# Altium footprint library CN_IDC.PcbLib: 43 footprints (part 1 of 3)
Each footprint in its own frame and in the unit in brackets; x right, y up, seen from the top. Pads: shape width x height; smd on the part's side, far side on the other; paste and mask are expansions set on the pad; w line width, h text height; cw(c..) or ccw(c..) is an arc to the next point about the centre after c.
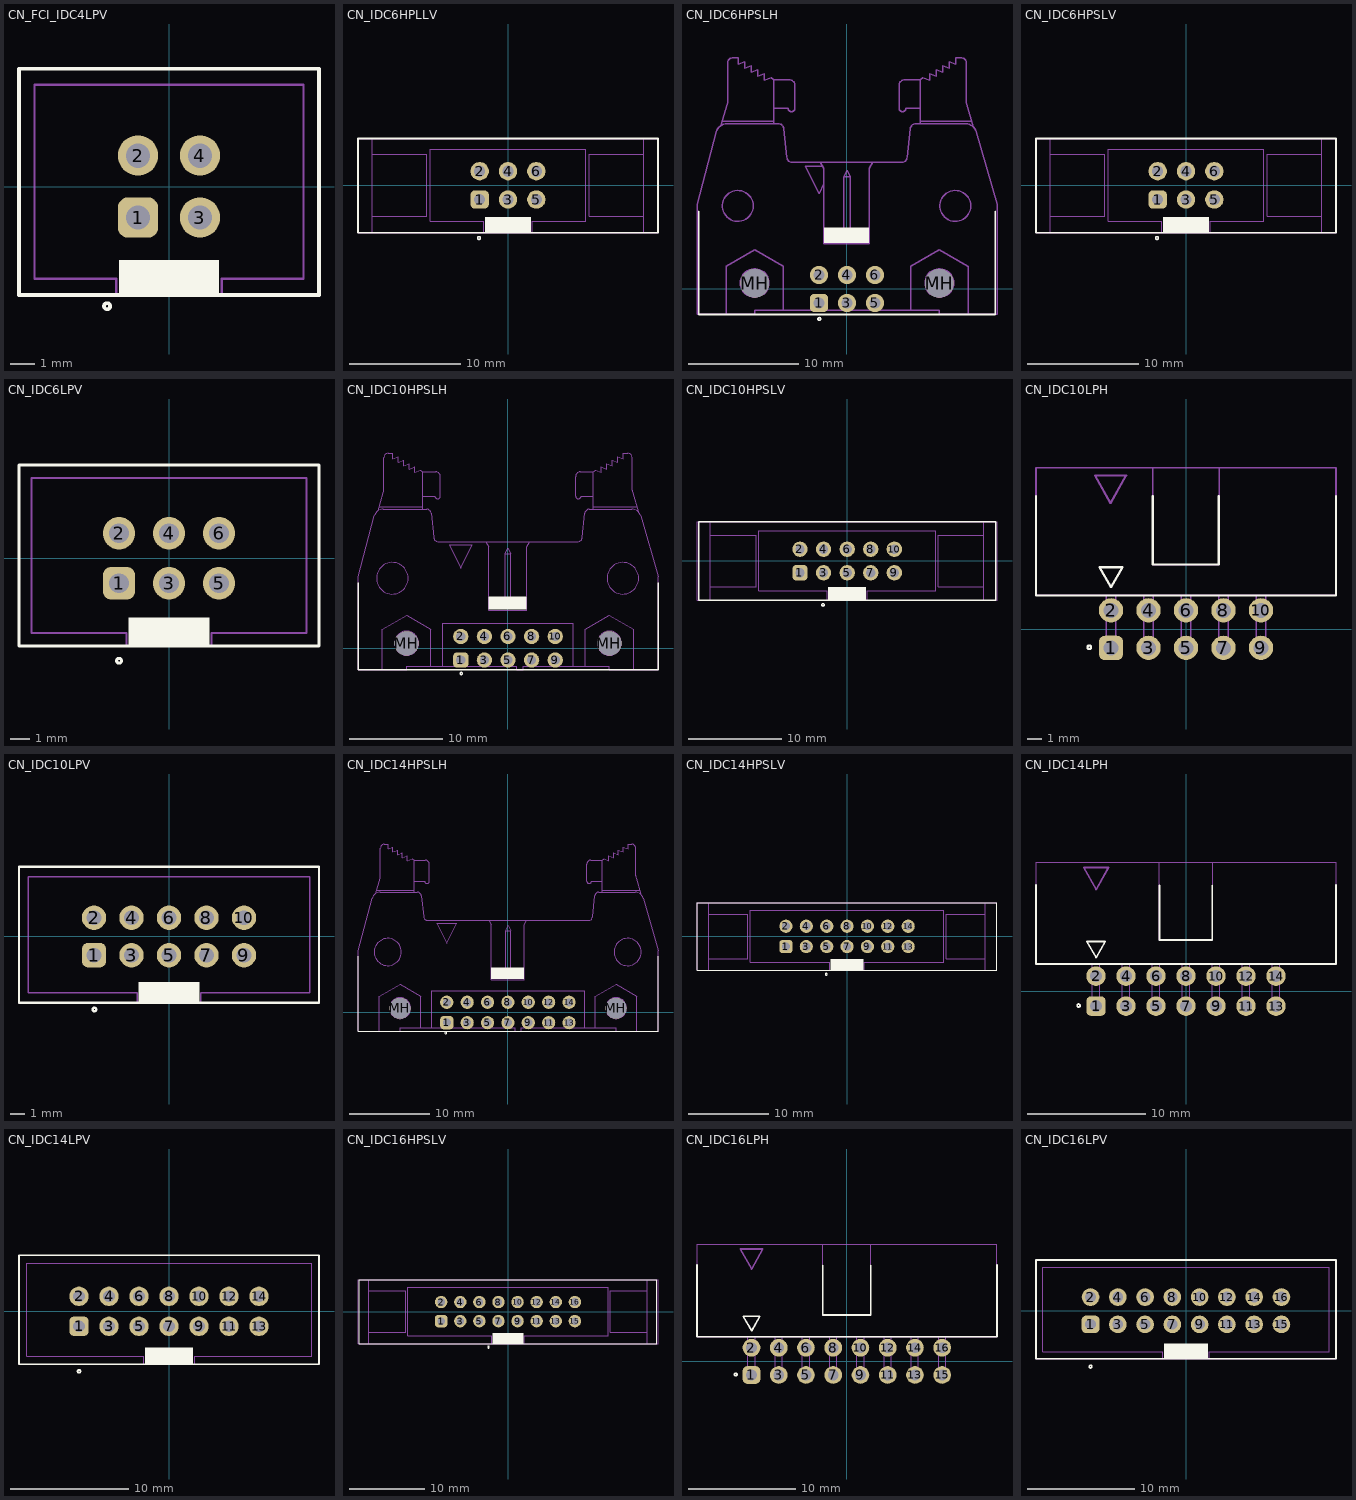
[diagram p0: the footprints below, top view; thin cyan lines are the x and y axes]

## CN_FCI_IDC4LPV [mm] "Connector IDC Low Profile Male Header, Thru-Hole; 4 pin; Vertical; R2.54 mm; Body 17.78 x 9.2 x 9.45 mm (LxWxH)"
height 9.45
pads (4):
  rrect50% 1.65x1.65 hole 1: 1(-1.27,-1.27)
  round 1.65 hole 1: 2(-1.27,1.27) 3(1.27,-1.27) 4(1.27,1.27)
Top Overlay:
  circle w0.15: c-2.538,-4.902 r0.125
  rectangle: -2.043,-4.445 2.057,-3.02
  lines w0.15: -6.147,-4.445 6.147,-4.445 6.147,4.826 -6.147,4.826 -6.147,-4.445
Mechanical 13:
  lines w0.102: -2.159,-4.445 -2.159,-3.782 -5.512,-3.782 -5.512,4.163 5.512,4.163 5.512,-3.782 2.159,-3.782 2.159,-4.445 ; -6.147,-4.442 -6.147,4.823 6.147,4.823 6.147,-4.442 -6.147,-4.442
  text "2" at -3.47,0.52 h1.5
  text "1" at -2.97,-2.02 h1.5
  text "4" at 2.521,0.52 h1.5
  text "3" at 2.521,-2.02 h1.5
3D body: height 9.34, standoff -3.03, extent -6.145,-4.444 6.145,4.826
3D body: height 0, standoff 0, extent -1.651,-1.651 -0.889,-0.889
3D body: height 0, standoff 0, extent -1.651,0.889 -0.889,1.651
3D body: height 0, standoff 0, extent 0.889,0.889 1.651,1.651
3D body: height 0, standoff 0, extent 0.889,-1.651 1.651,-0.889
3D body: height 0, standoff 0, extent -1.651,0.889 -0.889,1.651
3D body: height 0, standoff 0, extent -1.651,-1.651 -0.889,-0.889
3D body: height 0, standoff 0, extent 0.889,-1.651 1.651,-0.889
3D body: height 0, standoff 0, extent 0.889,0.889 1.651,1.651

## CN_IDC6HPLLV [mm] "Connector IDC High Profile Male Header, Thru-Hole; 6 pin; Vertical; R2.54 mm; Body 17.78 x 9.2 x 9.45 mm (LxWxH)  ni se modela!"
height 9.45
pads (6):
  rrect50% 1.65x1.65 hole 1: 1(-2.54,-1.27)
  round 1.65 hole 1: 2(-2.54,1.27) 3(0,-1.27) 4(0,1.27) 5(2.54,-1.27) 6(2.54,1.27)
Top Overlay:
  circle w0.15: c-2.6,-4.725 r0.125
  rectangle: -2.05,-4.25 2.05,-2.825
  lines w0.15: -13.45,-4.25 13.45,-4.25 13.45,4.2 -13.45,4.2 -13.45,-4.25
Mechanical 13:
  lines w0.1: -12.175,-4.25 -12.175,4.2 ; -12.175,-2.775 -7.275,-2.775 -7.275,2.775 -12.175,2.775 ; 12.175,-4.25 12.175,4.2 ; 12.175,-2.775 7.275,-2.775 7.275,2.775 12.175,2.775
  lines w0.102: -2.159,-4.25 -2.159,-3.2 -6.985,-3.2 -6.985,3.25 6.985,3.25 6.985,-3.2 2.159,-3.2 2.159,-4.25 ; -13.45,-4.25 -13.45,4.2 13.45,4.2 13.45,-4.25 -13.45,-4.25
  text "2" at -4.74,0.52 h1.5
  text "1" at -4.24,-2.02 h1.5
  text "6" at 3.74,0.52 h1.5
  text "5" at 3.74,-2.02 h1.5
3D body: height 23.59, standoff -2.91, extent -13.45,-4.25 13.45,4.25
3D body: height 14, standoff -2.9, extent -0.3,-1.57 0.3,-0.97
3D body: height 14, standoff -2.9, extent -0.3,0.97 0.3,1.57

## CN_IDC6HPSLH [mm] "Connector IDC High Profile Male Header, Thru-Hole; 6 pin; Horiz; R2.54 mm; Body 17.78 x 9.2 x 9.45 mm (LxWxH)"
height 9.45
pads (8):
  rrect50% 1.65x1.65 hole 1: 1(-2.54,-1.27)
  round 1.65 hole 1: 2(-2.54,1.27) 3(0,-1.27) 4(0,1.27) 5(2.54,-1.27) 6(2.54,1.27)
  round 2.59 hole 2.6 unplated paste+0 mask+0.2: MH(-8.38,0.53) MH(8.38,0.53)
Top Overlay:
  circle w0.15: c-2.513,-2.718 r0.125
  rectangle: -2.083,4.163 2.017,5.588
  lines w0.15: -13.45,7.036 -13.45,-2.311 13.45,-2.311 13.45,7.036
Mechanical 13:
  circle w0.127: c8.38,0.543 r1.3
  circle w0.127: c9.83,7.539 r1.4
  circle w0.127: c-9.91,7.539 r1.4
  circle w0.127: c-8.38,0.543 r1.3
  lines w0.127: -11.438,14.823 -10.871,16.75 ccw(c-11.83,17.033) -10.83,17.033 -10.83,20.489 cw(c-10.33,20.489) -10.33,20.989 -9.871,20.989 -9.871,20.401 -9.275,20.621 -9.275,20.033 -8.68,20.253 -8.68,19.666 -8.084,19.886 -8.084,19.298 -7.488,19.518 -7.488,18.931 -6.892,19.151 -6.63,18.989 ; -11.316,15.239 -6.63,15.239 ; -10.978,-2.311 -10.978,2.043 -8.38,3.543 -5.782,2.043 ; -6.63,14.989 -6.63,18.989 ; -6.63,16.389 -5.33,16.389 ccw(c-5.03,16.389) -4.73,16.389 -4.73,18.489 ccw(c-5.23,18.489) -5.23,18.989 -6.63,18.989 ; -5.78,-1.911 -5.78,2.041 ; -5.457,11.936 -5.726,14.53 ccw(c-6.225,14.489) -6.225,14.989 -10.887,14.989 ccw(c-10.887,13.989) -11.853,14.247 -13.61,7.689 -13.61,-2.311 -8.38,-2.311 -8.38,-1.911 8.38,-1.911 8.38,-2.311 13.61,-2.311 13.61,7.689 11.745,14.248 ccw(c10.779,13.989) 10.779,14.989 6.225,14.989 ccw(c6.225,14.489) 5.728,14.539 5.457,11.938 cw(c4.96,11.989) 4.96,11.489 -4.96,11.489 cw(c-4.96,11.989) -5.457,11.938 ; -2.408,11.489 -2.09,10.939 -2.09,4.089 2.01,4.089 2.01,10.939 2.327,11.489 ; -2.206,11.139 -3.79,11.139 -2.54,8.639 -2.09,9.538 ; -2.09,4.989 2.01,4.989 ; -0.318,4.989 -0.318,10.189 ; 0.317,4.989 0.317,10.189 ; 5.78,-1.911 5.78,2.041 ; 5.782,2.043 8.38,3.543 10.978,2.043 ; 6.63,14.989 6.63,18.989 ; 6.63,15.239 11.316,15.239 ; 6.63,16.389 5.33,16.389 cw(c5.03,16.389) 4.73,16.389 4.73,18.489 cw(c5.23,18.489) 5.23,18.989 6.63,18.989 ; 10.98,-2.311 10.98,2.041 ; 11.471,14.711 10.871,16.75 cw(c11.83,17.033) 10.83,17.033 10.83,20.489 ccw(c10.33,20.489) 10.33,20.989 9.871,20.989 9.871,20.401 9.275,20.621 9.275,20.033 8.68,20.253 8.68,19.666 8.084,19.886 8.084,19.298 7.488,19.518 7.488,18.931 6.892,19.151 6.63,18.989 ; -0.318,10.189 0,10.789 0.317,10.189 ; -0.318,10.189 0.317,10.189
  text "2" at -4.166,0.635 h1.25
  text "1" at -3.962,-1.626 h1.25
  text "6" at 3.429,0.635 h1.25
  text "5" at 3.404,-1.6 h1.25
3D body: height 5.85, standoff 5.25, extent -0.3,-1.57 0.3,11.379
3D body: height 3.31, standoff 2.71, extent -0.3,0.97 0.3,11.379
3D body: height 8.53, standoff -3.17, extent -13.45,-2.311 13.45,20.989
3D body: height 5.22, standoff -2.9, extent -0.3,-1.57 0.3,-0.97
3D body: height 2.68, standoff -2.9, extent -0.3,0.97 0.3,1.57

## CN_IDC6HPSLV [mm] "Connector IDC High Profile Male Header, Thru-Hole; 6 pin; Vertical; R2.54 mm; Body 17.78 x 9.2 x 9.45 mm (LxWxH)"
height 9.45
pads (6):
  rrect50% 1.65x1.65 hole 1: 1(-2.54,-1.27)
  round 1.65 hole 1: 2(-2.54,1.27) 3(0,-1.27) 4(0,1.27) 5(2.54,-1.27) 6(2.54,1.27)
Top Overlay:
  circle w0.15: c-2.6,-4.725 r0.125
  rectangle: -2.05,-4.25 2.05,-2.825
  lines w0.15: -13.45,-4.25 13.45,-4.25 13.45,4.2 -13.45,4.2 -13.45,-4.25
Mechanical 13:
  lines w0.1: -12.175,-4.25 -12.175,4.2 ; -12.175,-2.775 -7.275,-2.775 -7.275,2.775 -12.175,2.775 ; 12.175,-4.25 12.175,4.2 ; 12.175,-2.775 7.275,-2.775 7.275,2.775 12.175,2.775
  lines w0.102: -2.159,-4.25 -2.159,-3.2 -6.985,-3.2 -6.985,3.25 6.985,3.25 6.985,-3.2 2.159,-3.2 2.159,-4.25 ; -13.45,-4.25 -13.45,4.2 13.45,4.2 13.45,-4.25 -13.45,-4.25
  text "2" at -4.74,0.52 h1.5
  text "1" at -4.24,-2.02 h1.5
  text "6" at 3.74,0.52 h1.5
  text "5" at 3.74,-2.02 h1.5
3D body: height 23.59, standoff -2.91, extent -13.45,-4.25 13.45,4.25
3D body: height 14, standoff -2.9, extent -0.3,-1.57 0.3,-0.97
3D body: height 14, standoff -2.9, extent -0.3,0.97 0.3,1.57

## CN_IDC6LPV [mm] "Connector IDC Low Profile Male Header, Thru-Hole; 6 pin; Vertical; R2.54 mm; Body 17.78 x 9.2 x 9.45 mm (LxWxH)"
height 9.45
pads (6):
  rrect50% 1.65x1.65 hole 1: 1(-2.54,-1.27)
  round 1.65 hole 1: 2(-2.54,1.27) 3(0,-1.27) 4(0,1.27) 5(2.54,-1.27) 6(2.54,1.27)
Top Overlay:
  circle w0.15: c-2.538,-5.207 r0.125
  rectangle: -2.05,-4.448 2.05,-3.023
  lines w0.15: -7.62,-4.457 -7.62,4.747 7.62,4.747 7.62,-4.457 -7.62,-4.457
Mechanical 13:
  lines w0.102: -2.159,-4.448 -2.159,-3.794 -6.985,-3.794 -6.985,4.084 6.985,4.084 6.985,-3.794 2.159,-3.794 2.159,-4.448 ; -7.62,-4.455 7.62,-4.455 7.62,4.745 -7.62,4.745 -7.62,-4.455
  text "5" at 3.74,-2.02 h1.5
  text "6" at 3.74,0.52 h1.5
  text "1" at -4.24,-2.02 h1.5
  text "2" at -4.74,0.52 h1.5
3D body: height 9.4, standoff -3.25, extent -7.62,-4.45 7.62,4.75

## CN_IDC10HPSLH [mm] "Connector IDC High Profile Male Header, Thru-Hole; 10pin; Horiz; R2.54 mm; Body 17.78 x 9.2 x 9.45 mm (LxWxH)"
height 9.45
pads (12):
  rrect50% 1.65x1.65 hole 1: 1(-5.08,-1.27)
  round 1.65 hole 1: 2(-5.08,1.27) 3(-2.54,-1.27) 4(-2.54,1.27) 5(0,-1.27) 6(0,1.27) 7(2.54,-1.27) 8(2.54,1.27) 9(5.08,-1.27) 10(5.08,1.27)
  round 2.59 hole 2.6 unplated paste+0 mask+0.2: MH(-10.92,0.53) MH(10.92,0.53)
Top Overlay:
  circle w0.15: c-5.027,-2.718 r0.125
  rectangle: -2.083,4.163 2.017,5.588
  lines w0.15: -16.15,7.036 -16.15,-2.311 16.15,-2.311 16.15,7.036
Mechanical 13:
  circle w0.127: c10.92,0.543 r1.3
  circle w0.127: c12.37,7.539 r1.7
  circle w0.127: c-12.45,7.539 r1.7
  circle w0.127: c-10.92,0.543 r1.3
  lines w0.127: -13.978,14.823 -13.411,16.75 ccw(c-14.37,17.033) -13.37,17.033 -13.37,20.489 cw(c-12.87,20.489) -12.87,20.989 -12.411,20.989 -12.411,20.401 -11.815,20.621 -11.815,20.033 -11.22,20.253 -11.22,19.666 -10.624,19.886 -10.624,19.298 -10.028,19.518 -10.028,18.931 -9.432,19.151 -9.17,18.989 ; -13.856,15.239 -9.17,15.239 ; -13.518,-2.311 -13.518,2.043 -10.92,3.543 -8.322,2.043 ; -9.17,14.989 -9.17,18.989 ; -9.17,16.389 -7.87,16.389 ccw(c-7.57,16.389) -7.27,16.389 -7.27,18.489 ccw(c-7.77,18.489) -7.77,18.989 -9.17,18.989 ; -8.32,-1.911 -8.32,2.041 ; -7.997,11.936 -8.266,14.53 ccw(c-8.765,14.489) -8.765,14.989 -13.427,14.989 ccw(c-13.427,13.989) -14.393,14.247 -16.15,7.689 -16.15,-2.311 -10.92,-2.311 -10.92,-1.911 0.92,-1.911 0.92,-2.311 1.62,-2.311 1.62,-1.911 10.92,-1.911 10.92,-2.311 16.15,-2.311 16.15,7.689 14.285,14.248 ccw(c13.319,13.989) 13.319,14.989 8.765,14.989 ccw(c8.765,14.489) 8.268,14.539 7.997,11.938 cw(c7.5,11.989) 7.5,11.489 0,11.489 -7.5,11.489 cw(c-7.5,11.989) -7.997,11.938 ; -7,-1.911 -7,2.689 0,2.689 7,2.689 7,-1.911 ; -2.408,11.489 -2.09,10.939 -2.09,4.089 2.01,4.089 2.01,10.939 2.327,11.489 ; -2.09,4.989 2.01,4.989 ; -0.318,4.989 -0.318,10.189 ; 0.317,4.989 0.317,10.189 ; 8.32,-1.911 8.32,2.041 ; 8.322,2.043 10.92,3.543 13.518,2.043 ; 9.17,14.989 9.17,18.989 ; 9.17,15.239 13.856,15.239 ; 9.17,16.389 7.87,16.389 cw(c7.57,16.389) 7.27,16.389 7.27,18.489 cw(c7.77,18.489) 7.77,18.989 9.17,18.989 ; 13.52,-2.311 13.52,2.041 ; 14.011,14.711 13.411,16.75 cw(c14.37,17.033) 13.37,17.033 13.37,20.489 ccw(c12.87,20.489) 12.87,20.989 12.411,20.989 12.411,20.401 11.815,20.621 11.815,20.033 11.22,20.253 11.22,19.666 10.624,19.886 10.624,19.298 10.028,19.518 10.028,18.931 9.432,19.151 9.17,18.989 ; -0.318,10.189 0,10.789 0.317,10.189 ; -0.318,10.189 0.317,10.189 ; -6.33,11.139 -5.08,8.639 -3.83,11.139 -6.33,11.139
  text "2" at -4.166,0.635 h1.25
  text "1" at -3.962,-1.626 h1.25
  text "6" at 3.429,0.635 h1.25
  text "5" at 3.404,-1.6 h1.25
3D body: height 5.85, standoff 5.25, extent -0.3,-1.57 0.3,11.379
3D body: height 3.31, standoff 2.71, extent -0.3,0.97 0.3,11.379
3D body: height 8.53, standoff -3.17, extent -16.15,-2.311 16.15,20.989
3D body: height 5.22, standoff -2.9, extent -0.3,-1.57 0.3,-0.97
3D body: height 2.68, standoff -2.9, extent -0.3,0.97 0.3,1.57
3D body: height 2.68, standoff -2.9, extent -2.84,0.97 -2.24,1.57
3D body: height 5.22, standoff -2.9, extent -2.84,-1.57 -2.24,-0.97
3D body: height 3.31, standoff 2.71, extent -2.84,0.97 -2.24,11.379
3D body: height 5.85, standoff 5.25, extent -2.84,-1.57 -2.24,11.379
3D body: height 2.68, standoff -2.9, extent 2.24,0.97 2.84,1.57
3D body: height 5.22, standoff -2.9, extent 2.24,-1.57 2.84,-0.97
3D body: height 3.31, standoff 2.71, extent 2.24,0.97 2.84,11.379
3D body: height 5.85, standoff 5.25, extent 2.24,-1.57 2.84,11.379

## CN_IDC10HPSLV [mm] "Connector IDC High Profile Male Header, Thru-Hole; 10 pin; Vertical; R2.54 mm; Body 17.78 x 9.2 x 9.45 mm (LxWxH)"
height 9.45
pads (10):
  rrect50% 1.65x1.65 hole 1: 1(-5.08,-1.27)
  round 1.65 hole 1: 2(-5.08,1.27) 3(-2.54,-1.27) 4(-2.54,1.27) 5(0,-1.27) 6(0,1.27) 7(2.54,-1.27) 8(2.54,1.27) 9(5.08,-1.27) 10(5.08,1.27)
Top Overlay:
  circle w0.15: c-2.6,-4.725 r0.125
  rectangle: -2.05,-4.25 2.05,-2.825
  lines w0.15: -15.99,-4.25 -15.99,4.2 15.99,4.2 15.99,-4.25 -15.99,-4.25
Mechanical 13:
  lines w0.1: -14.715,-4.25 -14.715,4.2 ; -14.715,-2.775 -9.815,-2.775 -9.815,2.775 -14.715,2.775 ; 14.715,-4.25 14.715,4.2 ; 14.715,-2.775 9.815,-2.775 9.815,2.775 14.715,2.775
  lines w0.102: -2.159,-4.25 -2.159,-3.2 -9.525,-3.2 -9.525,3.25 9.525,3.25 9.525,-3.2 2.159,-3.2 2.159,-4.25 ; -16.168,-4.25 -16.168,4.2 16.132,4.2 16.132,-4.25 -16.168,-4.25
  text "9" at 6.28,-2.02 h1.5
  text "10" at 6.28,0.52 h1.5
  text "1" at -6.78,-2.02 h1.5
  text "2" at -7.28,0.52 h1.5
3D body: height 14, standoff -2.9, extent 2.24,-1.57 2.84,-0.97
3D body: height 14, standoff -2.9, extent 2.24,0.97 2.84,1.57
3D body: height 14, standoff -2.9, extent -2.84,-1.57 -2.24,-0.97
3D body: height 14, standoff -2.9, extent -2.84,0.97 -2.24,1.57
3D body: height 14, standoff -2.9, extent -0.3,0.97 0.3,1.57
3D body: height 14, standoff -2.9, extent -0.3,-1.57 0.3,-0.97
3D body: height 23.59, standoff -2.91, extent -16.168,-4.25 16.132,4.25

## CN_IDC10LPH [mm] "Connector IDC Low Profile Male Header, Thru-Hole; 10 pin; Horizontal; R2.54 mm; Body 20.32 x 9.45 x 9.2 mm (LxWxH)"
height 9.2
pads (10):
  rrect50% 1.65x1.65 hole 1: 1(-5.08,-1.27)
  round 1.65 hole 1: 2(-5.08,1.27) 3(-2.54,-1.27) 4(-2.54,1.27) 5(0,-1.27) 6(0,1.27) 7(2.54,-1.27) 8(2.54,1.27) 9(5.08,-1.27) 10(5.08,1.27)
Top Overlay:
  circle w0.15: c-6.55,-1.225 r0.125
  lines w0.15: -10.16,9 -10.16,2.286 10.16,2.286 10.16,9 ; -2.25,9 -2.25,4.375 2.225,4.375 2.225,9 ; -5.85,4.2 -5.075,2.85 -4.3,4.2 -5.85,4.2
Mechanical 13:
  lines w0.1: -5.41,2.286 -5.41,-1.6 -4.75,-1.6 -4.75,2.286 ; -2.87,2.286 -2.87,-1.6 -2.21,-1.6 -2.21,2.286 ; -2.25,4.375 2.225,4.375 ; -0.33,2.286 -0.33,-1.6 0.33,-1.6 0.33,2.286 ; 2.21,2.286 2.21,-1.6 2.87,-1.6 2.87,2.286 ; 4.75,2.286 4.75,-1.6 5.41,-1.6 5.41,2.286
  lines w0.102: -2.25,4.375 -2.25,10.922 ; 2.25,4.4 2.25,10.922 ; -10.16,2.311 10.16,2.311 10.16,10.922 -10.16,10.922 -10.16,2.311
  lines w0.15: -6.15,10.413 -4.05,10.413 -5.1,8.538 -6.15,10.413
  text "9" at 6.28,-2.02 h1.5
  text "10" at 6.28,0.52 h1.5
  text "1" at -6.78,-2.02 h1.5
  text "2" at -7.28,0.52 h1.5
3D body: height 9.2, standoff -3.2, extent -10.16,-1.598 10.16,10.922

## CN_IDC10LPV [mm] "Connector IDC Low Profile Male Header, Thru-Hole; 10 pin; Vertical; R2.54 mm; Body 20.32 x 9.2 x 9.45 mm (LxWxH)"
height 9.45
pads (10):
  rrect50% 1.65x1.65 hole 1: 1(-5.08,-1.27)
  round 1.65 hole 1: 2(-5.08,1.27) 3(-2.54,-1.27) 4(-2.54,1.27) 5(0,-1.27) 6(0,1.27) 7(2.54,-1.27) 8(2.54,1.27) 9(5.08,-1.27) 10(5.08,1.27)
Top Overlay:
  circle w0.15: c-5.055,-4.945 r0.125
  rectangle: -2.05,-4.498 2.05,-3.073
  lines w0.15: -10.16,-4.493 -10.16,4.722 10.16,4.722 10.16,-4.493 -10.16,-4.493
Mechanical 13:
  lines w0.102: -2.159,-4.491 -2.159,-3.83 -9.525,-3.83 -9.525,4.059 9.525,4.059 9.525,-3.83 2.159,-3.83 2.159,-4.491 ; -10.16,-4.491 10.16,-4.491 10.16,4.719 -10.16,4.719 -10.16,-4.491
  text "9" at 6.28,-2.02 h1.5
  text "10" at 6.28,0.52 h1.5
  text "1" at -6.78,-2.02 h1.5
  text "2" at -7.28,0.52 h1.5
3D body: height 9.4, standoff -3.25, extent -10.16,-4.45 10.16,4.75

## CN_IDC14HPSLH [mm] "Connector IDC High Profile Male Header, Thru-Hole; 14 pin; Horiz; R2.54 mm; Body 17.78 x 9.2 x 9.45 mm (LxWxH)"
height 9.45
pads (16):
  rrect50% 1.65x1.65 hole 1: 1(-7.62,-1.27)
  round 1.65 hole 1: 2(-7.62,1.27) 3(-5.08,-1.27) 4(-5.08,1.27) 5(-2.54,-1.27) 6(-2.54,1.27) 7(0,-1.27) 8(0,1.27) 9(2.54,-1.27) 10(2.54,1.27) 11(5.08,-1.27) 12(5.08,1.27) 13(7.62,-1.27) 14(7.62,1.27)
  round 2.59 hole 2.6 unplated paste+0 mask+0.2: MH(-13.46,0.53) MH(13.46,0.53)
Top Overlay:
  circle w0.15: c-7.745,-2.54 r0.125
  rectangle: -2.083,4.163 2.017,5.588
  lines w0.15: -18.69,7.036 -18.69,-2.311 18.71,-2.311 18.71,7.036
Mechanical 13:
  circle w0.127: c-13.44,0.543 r1.3
  circle w0.127: c-14.97,7.539 r1.7
  circle w0.127: c14.93,7.539 r1.7
  circle w0.127: c13.48,0.543 r1.3
  lines w0.127: -16.498,14.823 -15.931,16.75 ccw(c-16.89,17.033) -15.89,17.033 -15.89,20.489 cw(c-15.39,20.489) -15.39,20.989 -14.931,20.989 -14.931,20.401 -14.335,20.621 -14.335,20.033 -13.74,20.253 -13.74,19.666 -13.144,19.886 -13.144,19.298 -12.548,19.518 -12.548,18.931 -11.952,19.151 -11.69,18.989 ; -16.376,15.239 -11.69,15.239 ; -16.038,-2.311 -16.038,2.043 -13.44,3.543 -10.842,2.043 ; -11.69,14.989 -11.69,18.989 ; -11.69,16.389 -10.39,16.389 ccw(c-10.09,16.389) -9.79,16.389 -9.79,18.489 ccw(c-10.29,18.489) -10.29,18.989 -11.69,18.989 ; -10.84,-1.911 -10.84,2.041 ; -10.517,11.936 -10.786,14.53 ccw(c-11.285,14.489) -11.285,14.989 -15.947,14.989 ccw(c-15.947,13.989) -16.913,14.247 -18.67,7.689 -18.67,-2.311 -13.44,-2.311 -13.44,-1.911 0.94,-1.911 0.94,-2.311 1.64,-2.311 1.64,-1.911 13.48,-1.911 13.48,-2.311 18.71,-2.311 18.71,7.689 16.845,14.248 ccw(c15.879,13.989) 15.879,14.989 ; -10.517,11.938 ccw(c-10.02,11.989) -10.02,11.489 0.02,11.489 10.06,11.489 ccw(c10.06,11.989) 10.557,11.938 10.828,14.539 cw(c11.325,14.489) 11.325,14.989 15.879,14.989 ; -9.52,-1.911 -9.52,2.689 0.02,2.689 9.56,2.689 9.56,-1.911 ; -2.388,11.489 -2.07,10.939 -2.07,4.089 2.03,4.089 2.03,10.939 2.347,11.489 ; -2.07,4.989 2.03,4.989 ; -0.298,4.989 -0.298,10.189 ; 0.337,4.989 0.337,10.189 ; 10.88,-1.911 10.88,2.041 ; 10.882,2.043 13.48,3.543 16.078,2.043 ; 11.73,14.989 11.73,18.989 ; 11.73,15.239 16.416,15.239 ; 11.73,16.389 10.43,16.389 cw(c10.13,16.389) 9.83,16.389 9.83,18.489 cw(c10.33,18.489) 10.33,18.989 11.73,18.989 ; 16.08,-2.311 16.08,2.041 ; 16.571,14.711 15.971,16.75 cw(c16.93,17.033) 15.93,17.033 15.93,20.489 ccw(c15.43,20.489) 15.43,20.989 14.971,20.989 14.971,20.401 14.375,20.621 14.375,20.033 13.78,20.253 13.78,19.666 13.184,19.886 13.184,19.298 12.588,19.518 12.588,18.931 11.992,19.151 11.73,18.989 ; -0.298,10.189 0.337,10.189 ; -0.298,10.189 0.02,10.789 0.337,10.189 ; -8.85,11.139 -6.35,11.139 -7.6,8.639 -8.85,11.139
  text "13" at 8.484,-1.6 h1.25
  text "14" at 8.509,0.635 h1.25
  text "1" at -9.042,-1.626 h1.25
  text "2" at -9.246,0.635 h1.25
3D body: height 2.68, standoff -2.9, extent -5.38,0.97 -4.78,1.57
3D body: height 5.22, standoff -2.9, extent -5.38,-1.57 -4.78,-0.97
3D body: height 3.31, standoff 2.71, extent -5.38,0.97 -4.78,11.379
3D body: height 5.85, standoff 5.25, extent -5.38,-1.57 -4.78,11.379
3D body: height 5.85, standoff 5.25, extent 4.78,-1.57 5.38,11.379
3D body: height 3.31, standoff 2.71, extent 4.78,0.97 5.38,11.379
3D body: height 5.22, standoff -2.9, extent 4.78,-1.57 5.38,-0.97
3D body: height 2.68, standoff -2.9, extent 4.78,0.97 5.38,1.57
3D body: height 5.85, standoff 5.25, extent 2.24,-1.57 2.84,11.379
3D body: height 3.31, standoff 2.71, extent 2.24,0.97 2.84,11.379
3D body: height 5.22, standoff -2.9, extent 2.24,-1.57 2.84,-0.97
3D body: height 2.68, standoff -2.9, extent 2.24,0.97 2.84,1.57
3D body: height 5.85, standoff 5.25, extent -2.84,-1.57 -2.24,11.379
3D body: height 3.31, standoff 2.71, extent -2.84,0.97 -2.24,11.379
3D body: height 5.22, standoff -2.9, extent -2.84,-1.57 -2.24,-0.97
3D body: height 2.68, standoff -2.9, extent -2.84,0.97 -2.24,1.57
3D body: height 2.68, standoff -2.9, extent -0.3,0.97 0.3,1.57
3D body: height 5.22, standoff -2.9, extent -0.3,-1.57 0.3,-0.97
3D body: height 8.53, standoff -3.17, extent -18.69,-2.311 18.71,20.989
3D body: height 3.31, standoff 2.71, extent -0.3,0.97 0.3,11.379
3D body: height 5.85, standoff 5.25, extent -0.3,-1.57 0.3,11.379

## CN_IDC14HPSLV [mm] "Connector IDC High Profile Male Header, Thru-Hole; 14pin; Vertical; R2.54 mm; Body 17.78 x 9.2 x 9.45 mm (LxWxH)"
height 9.45
pads (14):
  rrect50% 1.65x1.65 hole 1: 1(-7.62,-1.27)
  round 1.65 hole 1: 2(-7.62,1.27) 3(-5.08,-1.27) 4(-5.08,1.27) 5(-2.54,-1.27) 6(-2.54,1.27) 7(0,-1.27) 8(0,1.27) 9(2.54,-1.27) 10(2.54,1.27) 11(5.08,-1.27) 12(5.08,1.27) 13(7.62,-1.27) 14(7.62,1.27)
Top Overlay:
  circle w0.15: c-2.6,-4.725 r0.125
  rectangle: -2.05,-4.25 2.05,-2.825
  lines w0.15: -18.708,-4.25 -18.708,4.2 18.692,4.2 18.692,-4.25 -18.708,-4.25
Mechanical 13:
  lines w0.1: -17.255,-4.25 -17.255,4.2 ; -17.255,-2.775 -12.355,-2.775 -12.355,2.775 -17.255,2.775 ; 17.255,-4.25 17.255,4.2 ; 17.255,-2.775 12.355,-2.775 12.355,2.775 17.255,2.775
  lines w0.102: -2.159,-4.25 -2.159,-3.2 -12.065,-3.2 -12.065,3.25 12.065,3.25 12.065,-3.2 2.159,-3.2 2.159,-4.25 ; -18.708,-4.25 18.692,-4.25 18.692,4.2 -18.708,4.2 -18.708,-4.25
  text "2" at -9.82,0.52 h1.5
  text "1" at -9.32,-2.02 h1.5
  text "14" at 8.82,0.52 h1.5
  text "13" at 8.82,-2.02 h1.5
3D body: height 23.59, standoff -2.91, extent -18.708,-4.25 18.692,4.25
3D body: height 14, standoff -2.9, extent -0.3,-1.57 0.3,-0.97
3D body: height 14, standoff -2.9, extent -0.3,0.97 0.3,1.57
3D body: height 14, standoff -2.9, extent -2.84,0.97 -2.24,1.57
3D body: height 14, standoff -2.9, extent -2.84,-1.57 -2.24,-0.97
3D body: height 14, standoff -2.9, extent 2.24,0.97 2.84,1.57
3D body: height 14, standoff -2.9, extent 2.24,-1.57 2.84,-0.97
3D body: height 14, standoff -2.9, extent 4.78,-1.57 5.38,-0.97
3D body: height 14, standoff -2.9, extent 4.78,0.97 5.38,1.57
3D body: height 14, standoff -2.9, extent -5.38,-1.57 -4.78,-0.97
3D body: height 14, standoff -2.9, extent -5.38,0.97 -4.78,1.57

## CN_IDC14LPH [mm] "Connector IDC Low Profile Male Header, Thru-Hole; 14 pin; Horizontal; R2.54 mm; Body 25.4 x 9.45 x 9.2 mm (LxWxH)"
height 9.2
pads (14):
  rrect50% 1.65x1.65 hole 1: 1(-7.62,-1.27)
  round 1.65 hole 1: 2(-7.62,1.27) 3(-5.08,-1.27) 4(-5.08,1.27) 5(-2.54,-1.27) 6(-2.54,1.27) 7(0,-1.27) 8(0,1.27) 9(2.54,-1.27) 10(2.54,1.27) 11(5.08,-1.27) 12(5.08,1.27) 13(7.62,-1.27) 14(7.62,1.27)
Top Overlay:
  circle w0.15: c-9.09,-1.225 r0.125
  lines w0.15: -12.7,9 -12.7,2.286 12.7,2.286 12.7,9 ; -2.25,8.943 -2.25,4.318 2.225,4.318 2.225,8.943 ; -8.39,4.2 -7.615,2.85 -6.84,4.2 -8.39,4.2
Mechanical 13:
  lines w0.1: -7.95,2.286 -7.95,-1.6 -7.29,-1.6 -7.29,2.286 ; -5.41,2.286 -5.41,-1.6 -4.75,-1.6 -4.75,2.286 ; -2.87,2.286 -2.87,-1.6 -2.21,-1.6 -2.21,2.286 ; -2.25,4.318 2.225,4.318 ; -0.33,2.286 -0.33,-1.6 0.33,-1.6 0.33,2.286 ; 2.21,2.286 2.21,-1.6 2.87,-1.6 2.87,2.286 ; 4.75,2.286 4.75,-1.6 5.41,-1.6 5.41,2.286 ; 7.29,2.286 7.29,-1.6 7.95,-1.6 7.95,2.286
  lines w0.102: -2.25,4.318 -2.25,10.922 ; 2.25,4.343 2.25,10.922 ; -12.7,2.311 -12.7,10.922 12.7,10.922 12.7,2.311 -12.7,2.311
  lines w0.15: -8.665,10.472 -7.615,8.597 -6.565,10.472 -8.665,10.472
  text "14" at 8.82,0.52 h1.5
  text "13" at 8.82,-2.02 h1.5
  text "2" at -9.82,0.52 h1.5
  text "1" at -9.32,-2.02 h1.5
3D body: height 9.2, standoff -3.2, extent -12.7,-1.598 12.7,10.922

## CN_IDC14LPV [mm] "Connector IDC Low Profile Male Header, Thru-Hole; 14 pin; Vertical; R2.54 mm; Body 25.4 x 9.2 x 9.45 mm (LxWxH)"
height 9.45
pads (14):
  rrect50% 1.65x1.65 hole 1: 1(-7.62,-1.27)
  round 1.65 hole 1: 2(-7.62,1.27) 3(-5.08,-1.27) 4(-5.08,1.27) 5(-2.54,-1.27) 6(-2.54,1.27) 7(0,-1.27) 8(0,1.27) 9(2.54,-1.27) 10(2.54,1.27) 11(5.08,-1.27) 12(5.08,1.27) 13(7.62,-1.27) 14(7.62,1.27)
Top Overlay:
  circle w0.15: c-7.618,-5.08 r0.125
  rectangle: -2.05,-4.473 2.05,-3.048
  lines w0.15: -12.7,-4.488 -12.7,4.745 12.7,4.745 12.7,-4.488 -12.7,-4.488
Mechanical 13:
  lines w0.102: -2.159,-4.488 -2.159,-3.825 -12.065,-3.825 -12.065,4.082 12.065,4.082 12.065,-3.825 2.159,-3.825 2.159,-4.488 ; -12.7,-4.485 12.7,-4.485 12.7,4.742 -12.7,4.742 -12.7,-4.485
  text "13" at 8.82,-2.02 h1.5
  text "14" at 8.82,0.52 h1.5
  text "1" at -9.32,-2.02 h1.5
  text "2" at -9.82,0.52 h1.5
3D body: height 9.4, standoff -3.25, extent -12.7,-4.45 12.7,4.75

## CN_IDC16HPSLV [mm] "Connector IDC High Profile Male Header, Thru-Hole; 16pin; Vertical; R2.54 mm; Body 17.78 x 9.2 x 9.45 mm (LxWxH)"
height 9.45
pads (16):
  rrect50% 1.65x1.65 hole 1: 1(-8.89,-1.27)
  round 1.65 hole 1: 2(-8.89,1.27) 3(-6.35,-1.27) 4(-6.35,1.27) 5(-3.81,-1.27) 6(-3.81,1.27) 7(-1.27,-1.27) 8(-1.27,1.27) 9(1.27,-1.27) 10(1.27,1.27) 11(3.81,-1.27) 12(3.81,1.27) 13(6.35,-1.27) 14(6.35,1.27) 15(8.89,-1.27) 16(8.89,1.27)
Top Overlay:
  circle w0.15: c-2.6,-4.725 r0.125
  rectangle: -2.05,-4.25 2.05,-2.825
  lines w0.15: -19.812,-4.25 -19.812,4.2 19.812,4.2 19.812,-4.25 -19.812,-4.25
Mechanical 13:
  lines w0.1: -18.525,-4.25 -18.525,4.2 ; -18.525,-2.775 -13.625,-2.775 -13.625,2.775 -18.525,2.775 ; 18.525,-4.25 18.525,4.2 ; 18.525,-2.775 13.625,-2.775 13.625,2.775 18.525,2.775
  lines w0.102: -2.159,-4.25 -2.159,-3.2 -13.335,-3.2 -13.335,3.25 13.335,3.25 13.335,-3.2 2.159,-3.2 2.159,-4.25 ; -19.952,-4.25 -19.952,4.2 19.948,4.2 19.948,-4.25 -19.952,-4.25
  text "15" at 10.09,-2.02 h1.5
  text "16" at 10.09,0.52 h1.5
  text "1" at -10.59,-2.02 h1.5
  text "2" at -11.09,0.52 h1.5
3D body: height 14, standoff -2.9, extent -6.65,0.97 -6.05,1.57
3D body: height 14, standoff -2.9, extent -6.65,-1.57 -6.05,-0.97
3D body: height 14, standoff -2.9, extent 3.51,0.97 4.11,1.57
3D body: height 14, standoff -2.9, extent 3.51,-1.57 4.11,-0.97
3D body: height 14, standoff -2.9, extent 0.97,-1.57 1.57,-0.97
3D body: height 14, standoff -2.9, extent 0.97,0.97 1.57,1.57
3D body: height 14, standoff -2.9, extent -4.11,-1.57 -3.51,-0.97
3D body: height 14, standoff -2.9, extent -4.11,0.97 -3.51,1.57
3D body: height 14, standoff -2.9, extent -1.57,0.97 -0.97,1.57
3D body: height 14, standoff -2.9, extent -1.57,-1.57 -0.97,-0.97
3D body: height 23.59, standoff -2.91, extent -19.952,-4.25 19.948,4.25
3D body: height 14, standoff -2.9, extent 6.05,-1.57 6.65,-0.97
3D body: height 14, standoff -2.9, extent 6.05,0.97 6.65,1.57

## CN_IDC16LPH [mm] "Connector IDC Low Profile Male Header, Thru-Hole; 16 pin; Horizontal; R2.54 mm; Body 27.94 x 9.45 x 9.2 mm (LxWxH)"
height 9.2
pads (16):
  rrect50% 1.65x1.65 hole 1: 1(-8.89,-1.27)
  round 1.65 hole 1: 2(-8.89,1.27) 3(-6.35,-1.27) 4(-6.35,1.27) 5(-3.81,-1.27) 6(-3.81,1.27) 7(-1.27,-1.27) 8(-1.27,1.27) 9(1.27,-1.27) 10(1.27,1.27) 11(3.81,-1.27) 12(3.81,1.27) 13(6.35,-1.27) 14(6.35,1.27) 15(8.89,-1.27) 16(8.89,1.27)
Top Overlay:
  circle w0.15: c-10.36,-1.225 r0.125
  lines w0.15: -13.97,9 -13.97,2.286 14,2.286 14,9 ; -2.25,8.943 -2.25,4.318 2.225,4.318 2.225,8.943 ; -9.66,4.2 -8.885,2.85 -8.11,4.2 -9.66,4.2
Mechanical 13:
  lines w0.1: -9.22,2.286 -9.22,-1.6 -8.56,-1.6 -8.56,2.286 ; -6.68,2.286 -6.68,-1.6 -6.02,-1.6 -6.02,2.286 ; -4.14,2.286 -4.14,-1.6 -3.48,-1.6 -3.48,2.286 ; -2.25,4.318 2.225,4.318 ; -1.6,2.286 -1.6,-1.6 -0.94,-1.6 -0.94,2.286 ; 0.94,2.286 0.94,-1.6 1.6,-1.6 1.6,2.286 ; 3.48,2.286 3.48,-1.6 4.14,-1.6 4.14,2.286 ; 6.02,2.286 6.02,-1.6 6.68,-1.6 6.68,2.286 ; 8.56,2.286 8.56,-1.6 9.22,-1.6 9.22,2.286
  lines w0.102: -2.25,4.318 -2.25,10.922 ; 2.25,4.343 2.25,10.922 ; -13.97,2.311 -13.97,10.922 13.975,10.922 13.975,2.311 -13.97,2.311
  lines w0.15: -9.935,10.472 -8.885,8.597 -7.835,10.472 -9.935,10.472
  text "16" at 10.09,0.52 h1.5
  text "15" at 10.09,-2.02 h1.5
  text "2" at -11.09,0.52 h1.5
  text "1" at -10.59,-2.02 h1.5
3D body: height 9.2, standoff -3.2, extent -13.97,-1.598 13.97,10.922

## CN_IDC16LPV [mm] "Connector IDC Low Profile Male Header, Thru-Hole; 16 pin; Vertical; R2.54 mm; Body 27.9 x 9.2 x 9.45 mm (LxWxH)"
height 9.45
pads (16):
  rrect50% 1.65x1.65 hole 1: 1(-8.89,-1.27)
  round 1.65 hole 1: 2(-8.89,1.27) 3(-6.35,-1.27) 4(-6.35,1.27) 5(-3.81,-1.27) 6(-3.81,1.27) 7(-1.27,-1.27) 8(-1.27,1.27) 9(1.27,-1.27) 10(1.27,1.27) 11(3.81,-1.27) 12(3.81,1.27) 13(6.35,-1.27) 14(6.35,1.27) 15(8.89,-1.27) 16(8.89,1.27)
Top Overlay:
  circle w0.15: c-8.888,-5.207 r0.125
  rectangle: -2.05,-4.473 2.05,-3.048
  lines w0.15: -13.97,-4.465 -13.97,4.722 13.97,4.722 13.97,-4.465 -13.97,-4.465
Mechanical 13:
  lines w0.102: -2.159,-4.465 -2.159,-3.802 -13.335,-3.802 -13.335,4.059 13.335,4.059 13.335,-3.802 2.159,-3.802 2.159,-4.465 ; -13.97,-4.463 13.97,-4.463 13.97,4.719 -13.97,4.719 -13.97,-4.463
  text "16" at 10.09,0.52 h1.5
  text "15" at 10.09,-2.02 h1.5
  text "1" at -10.59,-2.02 h1.5
  text "2" at -11.09,0.52 h1.5
3D body: height 9.4, standoff -3.25, extent -13.97,-4.45 13.97,4.75